# EAGLE library part DS1302 (library chip)
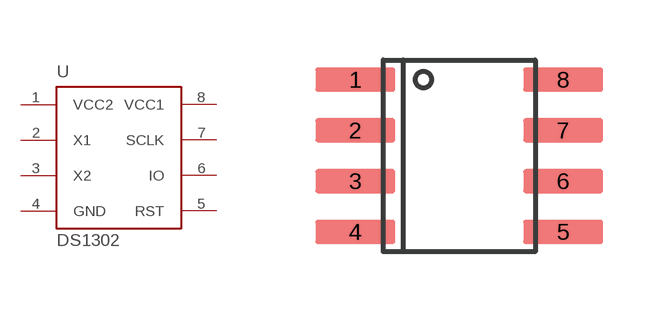
[diagram p1: symbol with the pads of SOIC8; footprint SOIC8]

Designator prefix U

## DS1302Z  [SOIC8]
1  VCC2  pwr
2  X1
3  X2
4  GND  pwr
5  RST  in
6  IO
7  SCLK  in
8  VCC1  pwr

## Footprint SOIC8 (pad centres in mm)
smd 2 x 0.6: 1 -2.6,1.905; 2 -2.6,0.635; 3 -2.6,-0.635; 4 -2.6,-1.905; 5 2.6,-1.905; 6 2.6,-0.635; 7 2.6,0.635; 8 2.6,1.905